# Altium schematic symbol library STM32.SchLib: 16 symbols
Pins are listed as number, name and electrical type; pins without a type are passive.

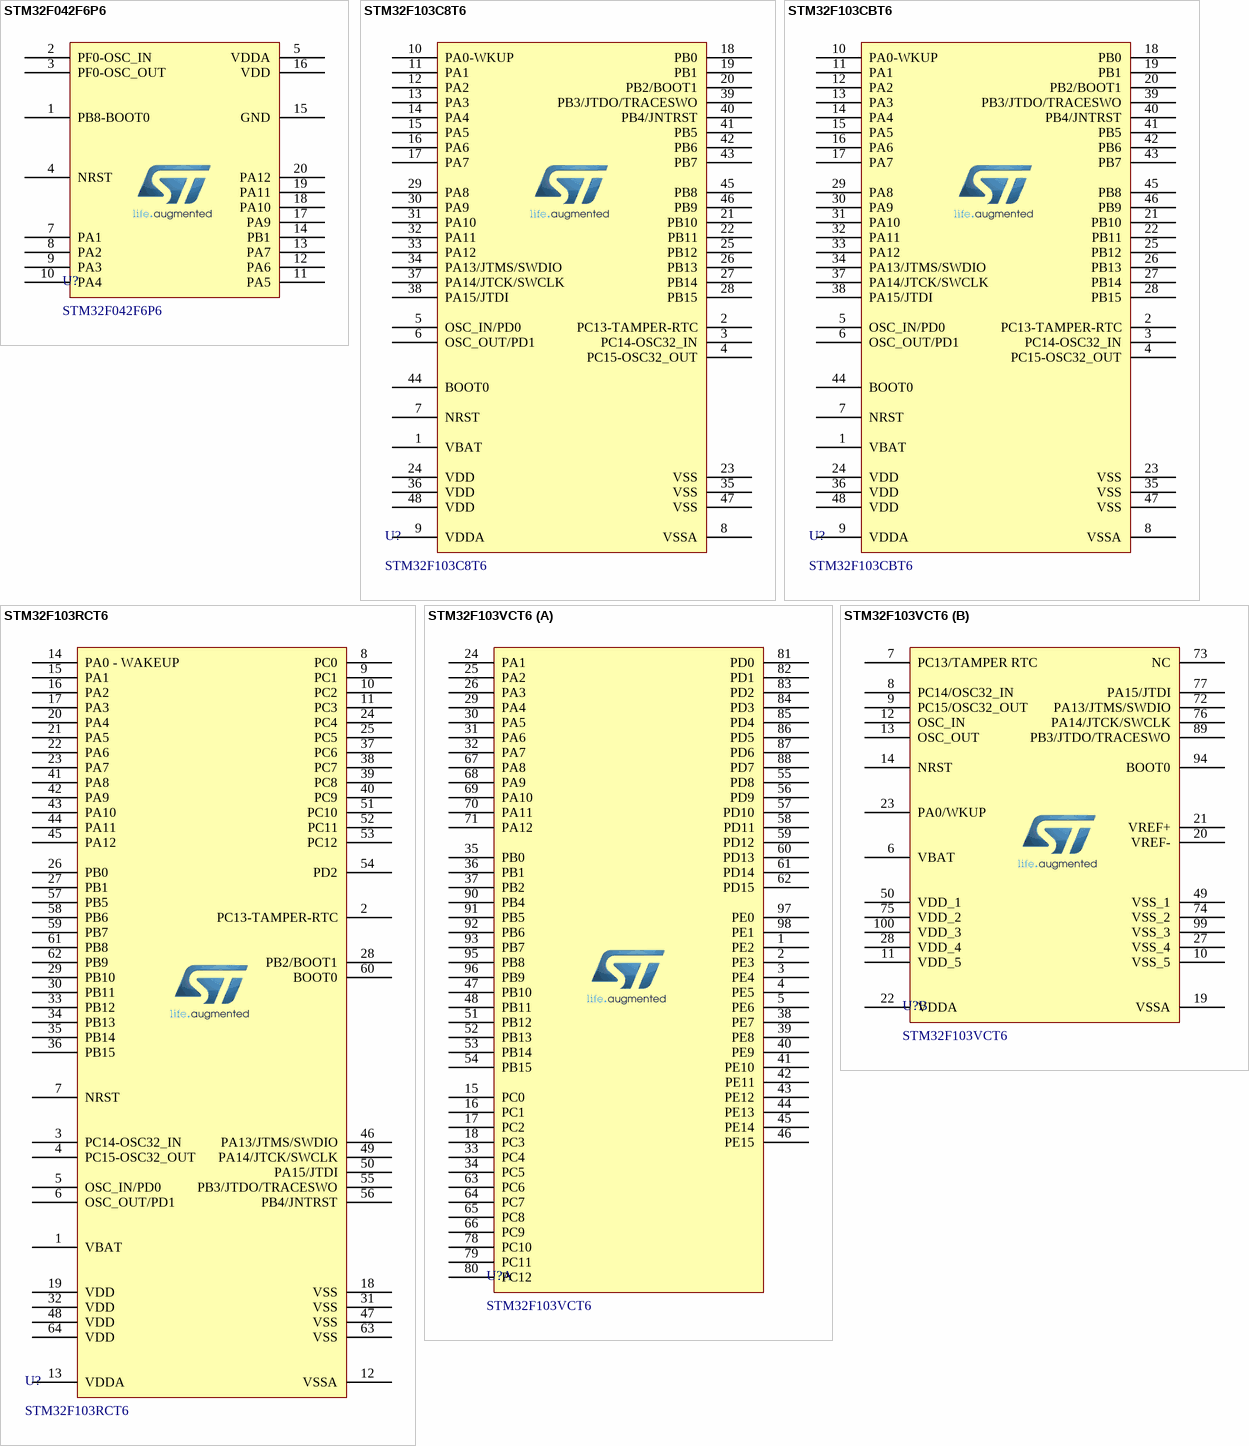
[diagram p0: symbols STM32F042F6P6 to STM32F103VCT6]

## STM32F042F6P6
designator U?
ARM Microcontrollers - MCU Mainstream Arm Cortex-M0 USB line MCU 32 Kbytes of Flash 48 MHz CPU, USB, CAN; Manufacturer: STMicroelectronics; Manufacturer Part Number: STM32F042F6P6TR; Pad count: 20; Supply Voltage - Max: 3.6 V; Supply Voltage - Min: 2 V; Part Number: STM32F042F6P6; Value: STM32F042F6P6; Supplier 1 URL: https://www.mouser.com/ProductDetail/STMicroelectronics/STM32F042F6P6?qs=4b8myOmUP%252BsTtpJfUMo83g%3D%3D; Supplier 2 URL: https://www.digikey.com/en/products/detail/stmicroelectronics/stm32f042f6p6tr/7313042; Supplier 3 URL: https://www.thegioiic.com/stm32f042f6p6-32-bit-arm-cortex-m0-microcontroller-48mhz-32kb-flash-20-tssop; Packaging: Tape and Reel; Supplier 1: Mouser; Supplier 1 Part Number: 511-STM32F042F6P6; Supplier 2: Digi-Key; Supplier 2 Part Number: 497-19656-2-ND; Supplier 3: thegioiic; Supplier 3 Part Number: STM32F042F6P6; Mount: SMD/SMT; Operating Temperature Max: + 85 C; Operating Temperature Min: - 40 C; Package / Case: TSSOP20; ComponentLink1Description: Datasheet; ComponentLink1URL: https://www.mouser.com/datasheet/2/389/stm32f042c4-1851049.pdf; LCSC Part #: N/A
footprint STM32F042F6P6 (TSOP, 20-Leads, Body 6.50x4.40mm, Pitch 0.65mm, IPC Medium Density)
pins: 1 PB8-BOOT0, 2 PF0-OSC_IN, 3 PF0-OSC_OUT, 4 NRST, 5 VDDA, 7 PA1, 8 PA2, 9 PA3, 10 PA4, 11 PA5, 12 PA6, 13 PA7, 14 PB1, 15 GND, 16 VDD, 17 PA9, 18 PA10, 19 PA11, 20 PA12

## STM32F103C8T6
designator U?
ARM Microcontrollers - MCU 32BIT Cortex M3 64KB 20KB RAM 2X12 ADC; Manufacturer: STMicroelectronics; Manufacturer Part Number: STM32F103C8T6TR; Pad count: 48; Supply Voltage - Max: 3.6 V; Supply Voltage - Min: 2 V; Part Number: STM32F103C8T6; Value: STM32F103C8T6; Supplier 1 URL: https://www.mouser.com/ProductDetail/STMicroelectronics/STM32F103C8T6?qs=bhCVus9SdFtq6kqxsU5%2FDA%3D%3D; Supplier 2 URL: https://www.digikey.com/en/products/detail/stmicroelectronics/stm32f103c8t6tr/2122442; Supplier 3 URL: https://www.thegioiic.com/stm32f103c8t6-32-bit-arm-cortex-m3-microcontroller-72mhz-64kb-flash-48-lqfp; Packaging: Tape and Reel; Supplier 1: Mouser; Supplier 1 Part Number: 511-STM32F103C8T6; Supplier 2: Digi-Key; Supplier 2 Part Number: 497-17666-2-ND; Supplier 3: thegioiic; Supplier 3 Part Number: STM32F103C8T6; Mount: SMD/SMT; Operating Temperature Max: + 85 C; Operating Temperature Min: - 40 C; Package / Case: LQFP48; ComponentLink1Description: Datasheet; ComponentLink1URL: https://www.mouser.com/datasheet/2/389/stm32f103c8-1851025.pdf; LCSC Part #: C8734; Flash Size: 64 KB; Ram Size: 20 KB
footprint STM32F103C8T6 (TSQFP, 48-Leads, Body 7.00x7.00mm, Pitch 0.50mm, IPC Medium Density)
pins: 1 VBAT, 2 PC13-TAMPER-RTC, 3 PC14-OSC32_IN, 4 PC15-OSC32_OUT, 5 OSC_IN/PD0, 6 OSC_OUT/PD1, 7 NRST, 8 VSSA, 9 VDDA, 10 PA0-WKUP, 11 PA1, 12 PA2, 13 PA3, 14 PA4, 15 PA5, 16 PA6, 17 PA7, 18 PB0, 19 PB1, 20 PB2/BOOT1, 21 PB10, 22 PB11, 23 VSS, 24 VDD, 25 PB12, 26 PB13, 27 PB14, 28 PB15, 29 PA8, 30 PA9, 31 PA10, 32 PA11, 33 PA12, 34 PA13/JTMS/SWDIO, 35 VSS, 36 VDD, 37 PA14/JTCK/SWCLK, 38 PA15/JTDI, 39 PB3/JTDO/TRACESWO, 40 PB4/JNTRST, 41 PB5, 42 PB6, 43 PB7, 44 BOOT0, 45 PB8, 46 PB9, 47 VSS, 48 VDD

## STM32F103CBT6
designator U?
Medium-density performance line ARM-based 32-bit MCU with 128 KB Flash, USB, CAN, 7 timers, 2 ADCs, 9 com. interfaces; Manufacturer: STMicroelectronics; Pad count: 48; Supply Voltage - Max: 3.6 V; Supply Voltage - Min: 2 V; Flash Size: 128 KB; Ram Size: 20 KB; Part Number: STM32F103CBT6; Value: STM32F103CBT6; Supplier 1 URL: https://www.mouser.vn/ProductDetail/STMicroelectronics/STM32F103CBT6?qs=WxFF5lh7QM3goh6GV5Ogig%3D%3D; Supplier 2 URL: https://www.digikey.com/en/products/detail/stmicroelectronics/stm32f103cbt6/1754420; Supplier 3 URL: N/A; Manufacturer Part Number: STM32F103CBT6; Packaging: Tape and Reel; Supplier 1: Mouser; Supplier 1 Part Number: 511-STM32F103CBT6; Supplier 2: Digi-Key; Supplier 2 Part Number: 497-6288-ND; Supplier 3: thegioiic; Supplier 3 Part Number: N/A; Mount: SMD/SMT; Operating Temperature Max: + 85 C; Operating Temperature Min: - 40 C; Package / Case: LQFP48; ComponentLink1Description: Datasheet; ComponentLink1URL: https://www.mouser.com/datasheet/2/389/stm32f103c8-1851025.pdf; LCSC Part #: C8304
footprint STM32F103C8T6 (TSQFP, 48-Leads, Body 7.00x7.00mm, Pitch 0.50mm, IPC Medium Density)
pins: 1 VBAT, 2 PC13-TAMPER-RTC, 3 PC14-OSC32_IN, 4 PC15-OSC32_OUT, 5 OSC_IN/PD0, 6 OSC_OUT/PD1, 7 NRST, 8 VSSA, 9 VDDA, 10 PA0-WKUP, 11 PA1, 12 PA2, 13 PA3, 14 PA4, 15 PA5, 16 PA6, 17 PA7, 18 PB0, 19 PB1, 20 PB2/BOOT1, 21 PB10, 22 PB11, 23 VSS, 24 VDD, 25 PB12, 26 PB13, 27 PB14, 28 PB15, 29 PA8, 30 PA9, 31 PA10, 32 PA11, 33 PA12, 34 PA13/JTMS/SWDIO, 35 VSS, 36 VDD, 37 PA14/JTCK/SWCLK, 38 PA15/JTDI, 39 PB3/JTDO/TRACESWO, 40 PB4/JNTRST, 41 PB5, 42 PB6, 43 PB7, 44 BOOT0, 45 PB8, 46 PB9, 47 VSS, 48 VDD

## STM32F103RCT6
designator U?
ARM Microcontrollers - MCU 32BIT Cortex M3 H/D 256 to 512 USB/CAN; Manufacturer: STMicroelectronics; Pad count: 64; Supply Voltage - Max: 3.6 V; Supply Voltage - Min: 2 V; Flash Size: 256 kB; Ram Size: 48 kB; Part Number: STM32F103RCT6; Value: STM32F103RCT6; Supplier 1 URL: https://www.mouser.vn/ProductDetail/STMicroelectronics/STM32F103RCT6?qs=%252BB84zevwoRA6TYzZIgOIoA%3D%3D; Supplier 2 URL: https://www.digikey.com/en/products/detail/stmicroelectronics/STM32F103RCT6/2035353; Supplier 3 URL: https://www.thegioiic.com/stm32f103rct6-64-lqfp-32-bit-arm-cortex-m3-microcontroller-72mhz-256kb-flash; Manufacturer Part Number: STM32F103RCT6; Packaging: Tape and Reel; Supplier 1: Mouser; Supplier 1 Part Number: 511-STM32F103RCT6; Supplier 2: Digi-Key; Supplier 2 Part Number: 497-9033-ND; Supplier 3: thegioiic; Supplier 3 Part Number: STM32F103RCT6; Mount: SMD/SMT; Operating Temperature Max: + 85 C; Operating Temperature Min: - 40 C; Package / Case: LQFP-64; ComponentLink1Description: Datasheet; ComponentLink1URL: https://www.mouser.vn/datasheet/2/389/stm32f103rc-1851170.pdf; LCSC Part #: C8323
footprint STM32F103RCT6 (TSQFP, 64-Leads, Body 10.00x10.00mm, Pitch 0.50mm, IPC Medium Density)
pins: 1 VBAT, 2 PC13-TAMPER-RTC, 3 PC14-OSC32_IN, 4 PC15-OSC32_OUT, 5 OSC_IN/PD0, 6 OSC_OUT/PD1, 7 NRST, 8 PC0, 9 PC1, 10 PC2, 11 PC3, 12 VSSA, 13 VDDA, 14 PA0 - WAKEUP, 15 PA1, 16 PA2, 17 PA3, 18 VSS, 19 VDD, 20 PA4, 21 PA5, 22 PA6, 23 PA7, 24 PC4, 25 PC5, 26 PB0, 27 PB1, 28 PB2/BOOT1, 29 PB10, 30 PB11, 31 VSS, 32 VDD, 33 PB12, 34 PB13, 35 PB14, 36 PB15, 37 PC6, 38 PC7, 39 PC8, 40 PC9, 41 PA8, 42 PA9, 43 PA10, 44 PA11, 45 PA12, 46 PA13/JTMS/SWDIO, 47 VSS, 48 VDD, 49 PA14/JTCK/SWCLK, 50 PA15/JTDI, 51 PC10, 52 PC11, 53 PC12, 54 PD2, 55 PB3/JTDO/TRACESWO, 56 PB4/JNTRST, 57 PB5, 58 PB6, 59 PB7, 60 BOOT0, 61 PB8, 62 PB9, 63 VSS, 64 VDD

## STM32F103VCT6
designator U?
ARM Microcontrollers - MCU 32BIT Cortex M3 256kB Flash 100pin; Manufacturer: STMicroelectronics; Pad count: 100; Supply Voltage - Max: 3.6 V; Supply Voltage - Min: 2 V; Ram Size: 48 kB; Part Number: STM32F103VCT6; Value: STM32F103VCT6; Supplier 1 URL: https://www.mouser.com/ProductDetail/STMicroelectronics/STM32F103VCT6?qs=%252BB84zevwoRDW1rpMEiZMCg%3D%3D; Supplier 2 URL: https://www.digikey.com/en/products/detail/stmicroelectronics/stm32f103vct6/2035333; Supplier 3 URL: https://www.thegioiic.com/stm32f103vct6-32-bit-arm-cortex-m3-microcontroller-72mhz-256kb-flash-100-lqfp; Manufacturer Part Number: STM32F103VCT6; Packaging: Tape and Reel; Supplier 1: Mouser; Supplier 1 Part Number: 511-STM32F103VCT6; Supplier 2: Digi-Key; Supplier 2 Part Number: 497-9034-ND; Supplier 3: thegioiic; Supplier 3 Part Number: STM32F103VCT6; Mount: SMD/SMT; Operating Temperature Max: + 85 C; Operating Temperature Min: - 40 C; Package / Case: LQFP-100; ComponentLink1Description: Datasheet; ComponentLink1URL: https://www.mouser.vn/datasheet/2/389/stm32f103rc-1851170.pdf; LCSC Part #: C8313; Flash Size: 256 kB
footprint STM32F103VCT6
part A pins: 1 PE2, 2 PE3, 3 PE4, 4 PE5, 5 PE6, 15 PC0, 16 PC1, 17 PC2, 18 PC3, 24 PA1, 25 PA2, 26 PA3, 29 PA4, 30 PA5, 31 PA6, 32 PA7, 33 PC4, 34 PC5, 35 PB0, 36 PB1, 37 PB2, 38 PE7, 39 PE8, 40 PE9, 41 PE10, 42 PE11, 43 PE12, 44 PE13, 45 PE14, 46 PE15, 47 PB10, 48 PB11, 51 PB12, 52 PB13, 53 PB14, 54 PB15, 55 PD8, 56 PD9, 57 PD10, 58 PD11, 59 PD12, 60 PD13, 61 PD14, 62 PD15, 63 PC6, 64 PC7, 65 PC8, 66 PC9, 67 PA8, 68 PA9, 69 PA10, 70 PA11, 71 PA12, 78 PC10, 79 PC11, 80 PC12, 81 PD0, 82 PD1, 83 PD2, 84 PD3, 85 PD4, 86 PD5, 87 PD6, 88 PD7, 90 PB4, 91 PB5, 92 PB6, 93 PB7, 95 PB8, 96 PB9, 97 PE0, 98 PE1
part B pins: 6 VBAT, 7 PC13/TAMPER RTC, 8 PC14/OSC32_IN, 9 PC15/OSC32_OUT, 10 VSS_5, 11 VDD_5, 12 OSC_IN, 13 OSC_OUT, 14 NRST, 19 VSSA, 20 VREF-, 21 VREF+, 22 VDDA, 23 PA0/WKUP, 27 VSS_4, 28 VDD_4, 49 VSS_1, 50 VDD_1, 72 PA13/JTMS/SWDIO, 73 NC, 74 VSS_2, 75 VDD_2, 76 PA14/JTCK/SWCLK, 77 PA15/JTDI, 89 PB3/JTDO/TRACESWO, 94 BOOT0, 99 VSS_3, 100 VDD_3

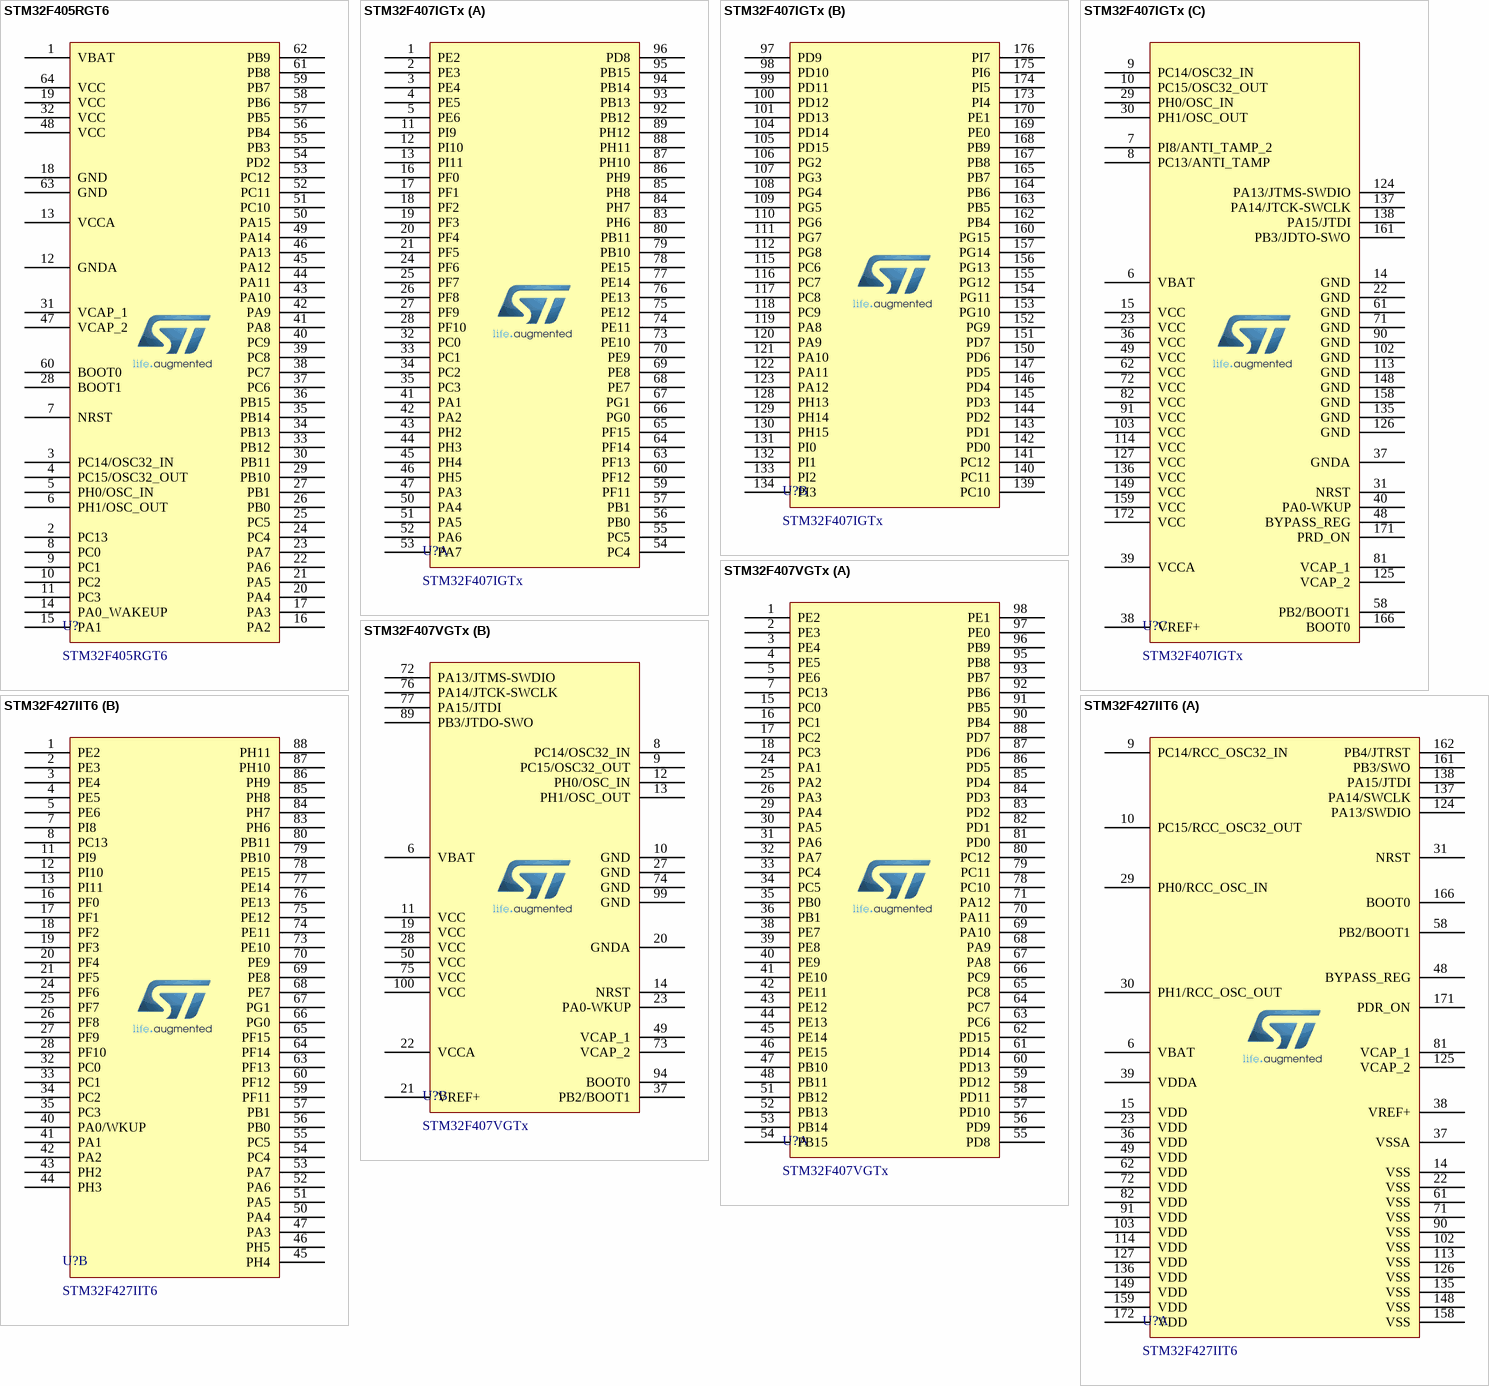
[diagram p1: symbols STM32F405RGT6 to STM32F427IIT6]

## STM32F405RGT6
designator U?
ARM Microcontrollers - MCU ARM M4 1024 FLASH 168 Mhz 192kB SRAM; Manufacturer: STMicroelectronics; Pad count: 64; Supply Voltage - Max: 3.6 V; Supply Voltage - Min: 2 V; Flash Size: 1 MB; Part Number: STM32F405RGT6; Value: STM32F405RGT6; Supplier 1 URL: https://www.mouser.com/ProductDetail/STMicroelectronics/STM32F405RGT6?qs=Z8%252BeY1k3TIKgj7QWsYGpQw%3D%3D; Supplier 2 URL: https://www.digikey.com/en/products/detail/stmicroelectronics/stm32f405rgt6/2754208; Supplier 3 URL: https://www.thegioiic.com/stm32f405rgt6; Manufacturer Part Number: STM32F405RGT6; Packaging: Tape and Reel; Supplier 1: Mouser; Supplier 1 Part Number: 511-STM32F405RGT6; Supplier 2: Digi-Key; Supplier 2 Part Number: 497-11767-ND; Supplier 3: thegioiic; Supplier 3 Part Number: STM32F405RGT6; Mount: SMD/SMT; Operating Temperature Max: + 85 C; Operating Temperature Min: - 40 C; Package / Case: LQFP64; ComponentLink1Description: Datasheet; ComponentLink1URL: https://www.mouser.com/datasheet/2/389/stm32f405rg-1851084.pdf; LCSC Part #: C15742; Ram Size: 192 kB
footprint STM32F405RGT6 (CQFP, 80-Leads, Body 12.00x12.00mm, Pitch 0.40mm, IPC Medium Density)
pins: 1 VBAT, 2 PC13, 3 PC14/OSC32_IN, 4 PC15/OSC32_OUT, 5 PH0/OSC_IN, 6 PH1/OSC_OUT, 7 NRST, 8 PC0, 9 PC1, 10 PC2, 11 PC3, 12 GNDA, 13 VCCA, 14 PA0_WAKEUP, 15 PA1, 16 PA2, 17 PA3, 18 GND, 19 VCC, 20 PA4, 21 PA5, 22 PA6, 23 PA7, 24 PC4, 25 PC5, 26 PB0, 27 PB1, 28 BOOT1, 29 PB10, 30 PB11, 31 VCAP_1, 32 VCC, 33 PB12, 34 PB13, 35 PB14, 36 PB15, 37 PC6, 38 PC7, 39 PC8, 40 PC9, 41 PA8, 42 PA9, 43 PA10, 44 PA11, 45 PA12, 46 PA13, 47 VCAP_2, 48 VCC, 49 PA14, 50 PA15, 51 PC10, 52 PC11, 53 PC12, 54 PD2, 55 PB3, 56 PB4, 57 PB5, 58 PB6, 59 PB7, 60 BOOT0, 61 PB8, 62 PB9, 63 GND, 64 VCC

## STM32F407IGTx
designator U?
ARM Microcontrollers - MCU ARM M4 1024 FLASH 168 Mhz 192kB SRAM; Manufacturer: STMicroelectronics; Pad count: 176; Supply Voltage - Max: 3.6 V; Supply Voltage - Min: 2 V; Part Number: STM32F407IGTx; Value: STM32F407IGTx; Supplier 1 URL: https://www.mouser.com/ProductDetail/STMicroelectronics/STM32F407IGT6?qs=Z8%252BeY1k3TIKtCI1VFSVLrA%3D%3D; Supplier 2 URL: https://www.digikey.com/en/products/detail/stmicroelectronics/stm32f407igt6/2747118; Supplier 3 URL: N/A; Manufacturer Part Number: STM32F407IGTx; Packaging: Tape and Reel; Supplier 1: Mouser; Supplier 1 Part Number: 511-STM32F407IGT6; Supplier 2: Digi-Key; Supplier 2 Part Number: 497-11604-ND; Supplier 3: thegioiic; Supplier 3 Part Number: N/A; Mount: SMD/SMT; Operating Temperature Max: + 85 C; Operating Temperature Min: - 40 C; Package / Case: LQFP176; ComponentLink1Description: Datasheet; ComponentLink1URL: https://www.mouser.com/datasheet/2/389/stm32f405rg-1851084.pdf; LCSC Part #: N/A
footprint STM32F407IGTx (TSQFP, 176-Leads, Body 24.00x24.00mm, Pitch 0.50mm, IPC Medium Density)
part A pins: 1 PE2, 2 PE3, 3 PE4, 4 PE5, 5 PE6, 11 PI9, 12 PI10, 13 PI11, 16 PF0, 17 PF1, 18 PF2, 19 PF3, 20 PF4, 21 PF5, 24 PF6, 25 PF7, 26 PF8, 27 PF9, 28 PF10, 32 PC0, 33 PC1, 34 PC2, 35 PC3, 41 PA1, 42 PA2, 43 PH2, 44 PH3, 45 PH4, 46 PH5, 47 PA3, 50 PA4, 51 PA5, 52 PA6, 53 PA7, 54 PC4, 55 PC5, 56 PB0, 57 PB1, 59 PF11, 60 PF12, 63 PF13, 64 PF14, 65 PF15, 66 PG0, 67 PG1, 68 PE7, 69 PE8, 70 PE9, 73 PE10, 74 PE11, 75 PE12, 76 PE13, 77 PE14, 78 PE15, 79 PB10, 80 PB11, 83 PH6, 84 PH7, 85 PH8, 86 PH9, 87 PH10, 88 PH11, 89 PH12, 92 PB12, 93 PB13, 94 PB14, 95 PB15, 96 PD8
part B pins: 97 PD9, 98 PD10, 99 PD11, 100 PD12, 101 PD13, 104 PD14, 105 PD15, 106 PG2, 107 PG3, 108 PG4, 109 PG5, 110 PG6, 111 PG7, 112 PG8, 115 PC6, 116 PC7, 117 PC8, 118 PC9, 119 PA8, 120 PA9, 121 PA10, 122 PA11, 123 PA12, 128 PH13, 129 PH14, 130 PH15, 131 PI0, 132 PI1, 133 PI2, 134 PI3, 139 PC10, 140 PC11, 141 PC12, 142 PD0, 143 PD1, 144 PD2, 145 PD3, 146 PD4, 147 PD5, 150 PD6, 151 PD7, 152 PG9, 153 PG10, 154 PG11, 155 PG12, 156 PG13, 157 PG14, 160 PG15, 162 PB4, 163 PB5, 164 PB6, 165 PB7, 167 PB8, 168 PB9, 169 PE0, 170 PE1, 173 PI4, 174 PI5, 175 PI6, 176 PI7
part C pins: 6 VBAT, 7 PI8/ANTI_TAMP_2, 8 PC13/ANTI_TAMP, 9 PC14/OSC32_IN, 10 PC15/OSC32_OUT, 14 GND, 15 VCC, 22 GND, 23 VCC, 29 PH0/OSC_IN, 30 PH1/OSC_OUT, 31 NRST, 36 VCC, 37 GNDA, 38 VREF+, 39 VCCA, 40 PA0-WKUP, 48 BYPASS_REG, 49 VCC, 58 PB2/BOOT1, 61 GND, 62 VCC, 71 GND, 72 VCC, 81 VCAP_1, 82 VCC, 90 GND, 91 VCC, 102 GND, 103 VCC, 113 GND, 114 VCC, 124 PA13/JTMS-SWDIO, 125 VCAP_2, 126 GND, 127 VCC, 135 GND, 136 VCC, 137 PA14/JTCK-SWCLK, 138 PA15/JTDI, 148 GND, 149 VCC, 158 GND, 159 VCC, 161 PB3/JDTO-SWO, 166 BOOT0, 171 PRD_ON, 172 VCC

## STM32F407VGTx
designator U?
ARM Microcontrollers - MCU ARM M4 1024 FLASH 168 Mhz 192kB SRAM; Manufacturer: STMicroelectronics; Part Number: STM32F407IGTx; Pad count: 100; Supply Voltage - Max: 3.6 V; Supply Voltage - Min: 2 V; Value: STM32F407VGTx; Supplier 1 URL: https://www.mouser.com/ProductDetail/STMicroelectronics/STM32F407VGT6?qs=Z8%252BeY1k3TIKAEQqwbO%2FOzA%3D%3D; Supplier 2 URL: https://www.digikey.com/en/products/detail/stmicroelectronics/stm32f407vgt6/2747117; Supplier 3 URL: N/A; Manufacturer Part Number: STM32F407VGTx; Packaging: Tape and Reel; Supplier 1: Mouser; Supplier 1 Part Number: 511-STM32F407VGT6; Supplier 2: Digi-Key; Supplier 2 Part Number: 497-11605-ND; Supplier 3: thegioiic; Supplier 3 Part Number: N/A; Mount: SMD/SMT; Operating Temperature Max: + 85 C; Operating Temperature Min: - 40 C; Package / Case: LQFP100; ComponentLink1Description: Datasheet; ComponentLink1URL: https://www.mouser.com/datasheet/2/389/stm32f745ie-1851206.pdf; LCSC Part #: N/A
footprint STM32F407VGTx (TSQFP, 100-Leads, Body 14.00x14.00mm, Pitch 0.50mm, IPC Medium Density)
part A pins: 1 PE2, 2 PE3, 3 PE4, 4 PE5, 5 PE6, 7 PC13, 15 PC0, 16 PC1, 17 PC2, 18 PC3, 24 PA1, 25 PA2, 26 PA3, 29 PA4, 30 PA5, 31 PA6, 32 PA7, 33 PC4, 34 PC5, 35 PB0, 36 PB1, 38 PE7, 39 PE8, 40 PE9, 41 PE10, 42 PE11, 43 PE12, 44 PE13, 45 PE14, 46 PE15, 47 PB10, 48 PB11, 51 PB12, 52 PB13, 53 PB14, 54 PB15, 55 PD8, 56 PD9, 57 PD10, 58 PD11, 59 PD12, 60 PD13, 61 PD14, 62 PD15, 63 PC6, 64 PC7, 65 PC8, 66 PC9, 67 PA8, 68 PA9, 69 PA10, 70 PA11, 71 PA12, 78 PC10, 79 PC11, 80 PC12, 81 PD0, 82 PD1, 83 PD2, 84 PD3, 85 PD4, 86 PD5, 87 PD6, 88 PD7, 90 PB4, 91 PB5, 92 PB6, 93 PB7, 95 PB8, 96 PB9, 97 PE0, 98 PE1
part B pins: 6 VBAT, 8 PC14/OSC32_IN, 9 PC15/OSC32_OUT, 10 GND, 11 VCC, 12 PH0/OSC_IN, 13 PH1/OSC_OUT, 14 NRST, 19 VCC, 20 GNDA, 21 VREF+, 22 VCCA, 23 PA0-WKUP, 27 GND, 28 VCC, 37 PB2/BOOT1, 49 VCAP_1, 50 VCC, 72 PA13/JTMS-SWDIO, 73 VCAP_2, 74 GND, 75 VCC, 76 PA14/JTCK-SWCLK, 77 PA15/JTDI, 89 PB3/JTDO-SWO, 94 BOOT0, 99 GND, 100 VCC

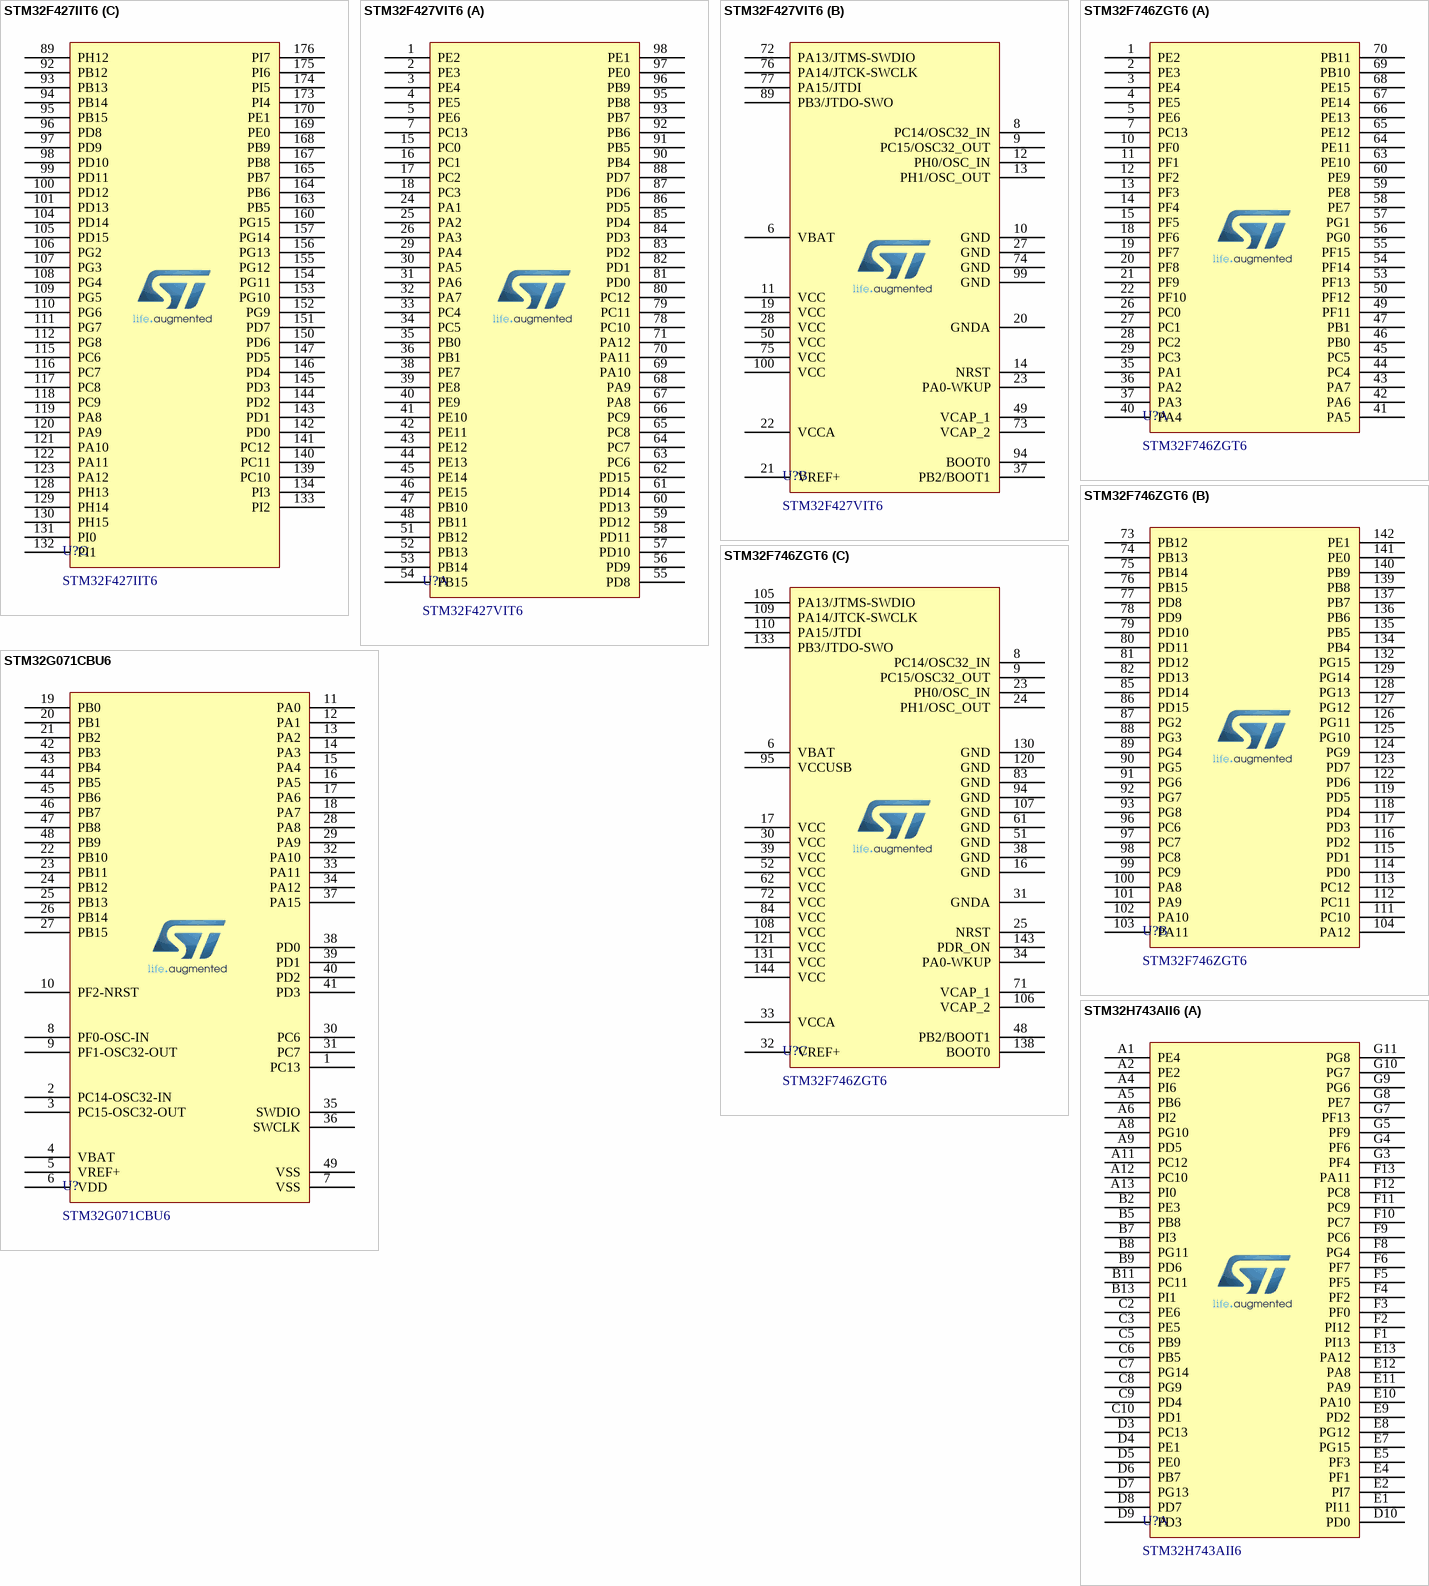
[diagram p2: symbols STM32F427IIT6 to STM32H743AII6]

## STM32F427IIT6
designator U?
ARM Microcontrollers - MCU 32B ARM Cortex-M4 2Mb Flash 168MHz CPU; Manufacturer: STMicroelectronics; Pad count: 176; Supply Voltage - Max: 3.6 V; Supply Voltage - Min: 1.7 V; Ram Size: 260 kB; Part Number: STM32F427IIT6; Value: STM32F427IIT6; Supplier 1 URL: https://www.mouser.com/ProductDetail/STMicroelectronics/STM32F427VIT6?qs=GlLcxsc1hfFxlQzXIfPRUw%3D%3D; Supplier 2 URL: https://www.digikey.com/en/products/detail/stmicroelectronics/stm32f427iit6/4357417; Supplier 3 URL: N/A; Manufacturer Part Number: STM32F427IIT6; Packaging: Tape and Reel; Supplier 1: Mouser; Supplier 1 Part Number: 511-STM32F427IIT6; Supplier 2: Digi-Key; Supplier 2 Part Number: 497-14051-ND; Supplier 3: thegioiic; Supplier 3 Part Number: N/A; Mount: SMD/SMT; Operating Temperature Max: + 85 C; Operating Temperature Min: - 40 C; Package / Case: LQFP-176; ComponentLink1Description: Datasheet; ComponentLink1URL: https://www.st.com/resource/en/datasheet/stm32f427ag.pdf; LCSC Part #: C2969761; Flash Size: 2 MB
footprint STM32F427IIT6 (TSQFP, 176-Leads, Body 24.00x24.00mm, Pitch 0.50mm, IPC Medium Density)
part A pins: 6 VBAT, 9 PC14/RCC_OSC32_IN, 10 PC15/RCC_OSC32_OUT, 14 VSS, 15 VDD, 22 VSS, 23 VDD, 29 PH0/RCC_OSC_IN, 30 PH1/RCC_OSC_OUT, 31 NRST, 36 VDD, 37 VSSA, 38 VREF+, 39 VDDA, 48 BYPASS_REG, 49 VDD, 58 PB2/BOOT1, 61 VSS, 62 VDD, 71 VSS, 72 VDD, 81 VCAP_1, 82 VDD, 90 VSS, 91 VDD, 102 VSS, 103 VDD, 113 VSS, 114 VDD, 124 PA13/SWDIO, 125 VCAP_2, 126 VSS, 127 VDD, 135 VSS, 136 VDD, 137 PA14/SWCLK, 138 PA15/JTDI, 148 VSS, 149 VDD, 158 VSS, 159 VDD, 161 PB3/SWO, 162 PB4/JTRST, 166 BOOT0, 171 PDR_ON, 172 VDD
part B pins: 1 PE2, 2 PE3, 3 PE4, 4 PE5, 5 PE6, 7 PI8, 8 PC13, 11 PI9, 12 PI10, 13 PI11, 16 PF0, 17 PF1, 18 PF2, 19 PF3, 20 PF4, 21 PF5, 24 PF6, 25 PF7, 26 PF8, 27 PF9, 28 PF10, 32 PC0, 33 PC1, 34 PC2, 35 PC3, 40 PA0/WKUP, 41 PA1, 42 PA2, 43 PH2, 44 PH3, 45 PH4, 46 PH5, 47 PA3, 50 PA4, 51 PA5, 52 PA6, 53 PA7, 54 PC4, 55 PC5, 56 PB0, 57 PB1, 59 PF11, 60 PF12, 63 PF13, 64 PF14, 65 PF15, 66 PG0, 67 PG1, 68 PE7, 69 PE8, 70 PE9, 73 PE10, 74 PE11, 75 PE12, 76 PE13, 77 PE14, 78 PE15, 79 PB10, 80 PB11, 83 PH6, 84 PH7, 85 PH8, 86 PH9, 87 PH10, 88 PH11
part C pins: 89 PH12, 92 PB12, 93 PB13, 94 PB14, 95 PB15, 96 PD8, 97 PD9, 98 PD10, 99 PD11, 100 PD12, 101 PD13, 104 PD14, 105 PD15, 106 PG2, 107 PG3, 108 PG4, 109 PG5, 110 PG6, 111 PG7, 112 PG8, 115 PC6, 116 PC7, 117 PC8, 118 PC9, 119 PA8, 120 PA9, 121 PA10, 122 PA11, 123 PA12, 128 PH13, 129 PH14, 130 PH15, 131 PI0, 132 PI1, 133 PI2, 134 PI3, 139 PC10, 140 PC11, 141 PC12, 142 PD0, 143 PD1, 144 PD2, 145 PD3, 146 PD4, 147 PD5, 150 PD6, 151 PD7, 152 PG9, 153 PG10, 154 PG11, 155 PG12, 156 PG13, 157 PG14, 160 PG15, 163 PB5, 164 PB6, 165 PB7, 167 PB8, 168 PB9, 169 PE0, 170 PE1, 173 PI4, 174 PI5, 175 PI6, 176 PI7

## STM32F427VIT6
designator U?
ARM Microcontrollers - MCU 32B ARM Cortex-M4 2Mb Flash 168MHz CPU; Manufacturer: STMicroelectronics; Part Number: STM32F427VIT6A; Pad count: 100; Supply Voltage - Max: 3.6 V; Supply Voltage - Min: 2 V; Ram Size: 260 kB; Value: STM32F427VIT6; Supplier 1 URL: https://www.mouser.com/ProductDetail/STMicroelectronics/STM32F427VIT6?qs=GlLcxsc1hfFxlQzXIfPRUw%3D%3D; Supplier 2 URL: https://www.digikey.com/en/products/detail/stmicroelectronics/stm32f429vit6g/8257805; Supplier 3 URL: N/A; Manufacturer Part Number: STM32F427VIT6; Packaging: Tape and Reel; Supplier 1: Mouser; Supplier 1 Part Number: 511-STM32F427VIT6; Supplier 2: Digi-Key; Supplier 2 Part Number: STM32F429VIT6G-ND; Supplier 3: thegioiic; Supplier 3 Part Number: N/A; Mount: SMD/SMT; Operating Temperature Max: + 85 C; Operating Temperature Min: - 40 C; Package / Case: LQFP100; ComponentLink1Description: Datasheet; ComponentLink1URL: https://www.mouser.com/datasheet/2/389/stm32f427vg-1760963.pdf; LCSC Part #: C57097; Flash Size: 2 MB
footprint STM32F427VIT6 (TSQFP, 100-Leads, Body 14.00x14.00mm, Pitch 0.50mm, IPC Medium Density)
part A pins: 1 PE2, 2 PE3, 3 PE4, 4 PE5, 5 PE6, 7 PC13, 15 PC0, 16 PC1, 17 PC2, 18 PC3, 24 PA1, 25 PA2, 26 PA3, 29 PA4, 30 PA5, 31 PA6, 32 PA7, 33 PC4, 34 PC5, 35 PB0, 36 PB1, 38 PE7, 39 PE8, 40 PE9, 41 PE10, 42 PE11, 43 PE12, 44 PE13, 45 PE14, 46 PE15, 47 PB10, 48 PB11, 51 PB12, 52 PB13, 53 PB14, 54 PB15, 55 PD8, 56 PD9, 57 PD10, 58 PD11, 59 PD12, 60 PD13, 61 PD14, 62 PD15, 63 PC6, 64 PC7, 65 PC8, 66 PC9, 67 PA8, 68 PA9, 69 PA10, 70 PA11, 71 PA12, 78 PC10, 79 PC11, 80 PC12, 81 PD0, 82 PD1, 83 PD2, 84 PD3, 85 PD4, 86 PD5, 87 PD6, 88 PD7, 90 PB4, 91 PB5, 92 PB6, 93 PB7, 95 PB8, 96 PB9, 97 PE0, 98 PE1
part B pins: 6 VBAT, 8 PC14/OSC32_IN, 9 PC15/OSC32_OUT, 10 GND, 11 VCC, 12 PH0/OSC_IN, 13 PH1/OSC_OUT, 14 NRST, 19 VCC, 20 GNDA, 21 VREF+, 22 VCCA, 23 PA0-WKUP, 27 GND, 28 VCC, 37 PB2/BOOT1, 49 VCAP_1, 50 VCC, 72 PA13/JTMS-SWDIO, 73 VCAP_2, 74 GND, 75 VCC, 76 PA14/JTCK-SWCLK, 77 PA15/JTDI, 89 PB3/JTDO-SWO, 94 BOOT0, 99 GND, 100 VCC

## STM32F746ZGT6
designator U?
ARM Microcontrollers - MCU High-performance & DSP FPU Arm Cortex-M7 MCU 1 Mbyte of Flash 216 MHz CPU, Art A; Manufacturer: STMicroelectronics; Part Number: STM32F746ZGT6A; Pad count: 144; Supply Voltage - Max: 3.6 V; Supply Voltage - Min: 2 V; Value: STM32F746ZGT6; Supplier 1 URL: https://www.mouser.com/ProductDetail/STMicroelectronics/STM32F746ZGT6?qs=E2FFEhwHWtea9cFNtjZMIQ%3D%3D; Supplier 2 URL: https://www.digikey.com/en/products/detail/stmicroelectronics/stm32f746zgt6g/8257836; Supplier 3 URL: N/A; Manufacturer Part Number: STM32F746ZGT6A; Packaging: Tape and Reel; Supplier 1: Mouser; Supplier 1 Part Number: 511-STM32F746ZGT6; Supplier 2: Digi-Key; Supplier 2 Part Number: STM32F746ZGT6G-ND; Supplier 3: thegioiic; Supplier 3 Part Number: N/A; Mount: SMD/SMT; Operating Temperature Max: + 85 C; Operating Temperature Min: - 40 C; Package / Case: LQFP144; ComponentLink1Description: Datasheet; ComponentLink1URL: https://www.mouser.com/datasheet/2/389/stm32f745ie-1851206.pdf; LCSC Part #: N/A
footprint STM32F746ZGT6 (TSQFP, 144-Leads, Body 20.00x20.00mm, Pitch 0.50mm, IPC Medium Density)
part A pins: 1 PE2, 2 PE3, 3 PE4, 4 PE5, 5 PE6, 7 PC13, 10 PF0, 11 PF1, 12 PF2, 13 PF3, 14 PF4, 15 PF5, 18 PF6, 19 PF7, 20 PF8, 21 PF9, 22 PF10, 26 PC0, 27 PC1, 28 PC2, 29 PC3, 35 PA1, 36 PA2, 37 PA3, 40 PA4, 41 PA5, 42 PA6, 43 PA7, 44 PC4, 45 PC5, 46 PB0, 47 PB1, 49 PF11, 50 PF12, 53 PF13, 54 PF14, 55 PF15, 56 PG0, 57 PG1, 58 PE7, 59 PE8, 60 PE9, 63 PE10, 64 PE11, 65 PE12, 66 PE13, 67 PE14, 68 PE15, 69 PB10, 70 PB11
part B pins: 73 PB12, 74 PB13, 75 PB14, 76 PB15, 77 PD8, 78 PD9, 79 PD10, 80 PD11, 81 PD12, 82 PD13, 85 PD14, 86 PD15, 87 PG2, 88 PG3, 89 PG4, 90 PG5, 91 PG6, 92 PG7, 93 PG8, 96 PC6, 97 PC7, 98 PC8, 99 PC9, 100 PA8, 101 PA9, 102 PA10, 103 PA11, 104 PA12, 111 PC10, 112 PC11, 113 PC12, 114 PD0, 115 PD1, 116 PD2, 117 PD3, 118 PD4, 119 PD5, 122 PD6, 123 PD7, 124 PG9, 125 PG10, 126 PG11, 127 PG12, 128 PG13, 129 PG14, 132 PG15, 134 PB4, 135 PB5, 136 PB6, 137 PB7, 139 PB8, 140 PB9, 141 PE0, 142 PE1
part C pins: 6 VBAT, 8 PC14/OSC32_IN, 9 PC15/OSC32_OUT, 16 GND, 17 VCC, 23 PH0/OSC_IN, 24 PH1/OSC_OUT, 25 NRST, 30 VCC, 31 GNDA, 32 VREF+, 33 VCCA, 34 PA0-WKUP, 38 GND, 39 VCC, 48 PB2/BOOT1, 51 GND, 52 VCC, 61 GND, 62 VCC, 71 VCAP_1, 72 VCC, 83 GND, 84 VCC, 94 GND, 95 VCCUSB, 105 PA13/JTMS-SWDIO, 106 VCAP_2, 107 GND, 108 VCC, 109 PA14/JTCK-SWCLK, 110 PA15/JTDI, 120 GND, 121 VCC, 130 GND, 131 VCC, 133 PB3/JTDO-SWO, 138 BOOT0, 143 PDR_ON, 144 VCC

## STM32G071CBU6
designator U?
ARM Microcontrollers - MCU Mainstream Arm Cortex-M0 USB line MCU 32 Kbytes of Flash 48 MHz CPU, USB, CAN; Part Number: STM32F042F6P6; Manufacturer: STMicroelectronics; Pad count: 48; Supply Voltage - Max: 3.6 V; Supply Voltage - Min: 1.71V; Flash Size: 128KB; Ram Size: 36 kB; Value: STM32G071CBU6; Supplier 1 URL: https://www.mouser.com/ProductDetail/STMicroelectronics/STM32G071CBU6?qs=PqoDHHvF648BGloVMMKm2g%3D%3D; Supplier 2 URL: https://www.digikey.com/en/products/detail/stmicroelectronics/stm32g071cbu6/9817786; Supplier 3 URL: N/A; Manufacturer Part Number: STM32G071CBU6; Packaging: Tape and Reel; Supplier 1: Mouser; Supplier 1 Part Number: 511-STM32G071CBU6; Supplier 2: Digi-Key; Supplier 2 Part Number: 497-18353-ND; Supplier 3: thegioiic; Supplier 3 Part Number: N/A; Mount: SMD/SMT; Operating Temperature Max: + 85 C; Operating Temperature Min: - 40 C; Package / Case: UFQFPN-48; ComponentLink1Description: Datasheet; ComponentLink1URL: https://www.lcsc.com/datasheet/C529343.pdf; LCSC Part #: C529343
footprint STM32G071CBU6 (QFN, 48-Leads, Body 7.00x7.00mm, Pitch 0.50mm, Thermal Pad 5.60x5.60mm, IPC Medium Density)
pins: 1 PC13, 2 PC14-OSC32-IN, 3 PC15-OSC32-OUT, 4 VBAT, 5 VREF+, 6 VDD, 7 VSS, 8 PF0-OSC-IN, 9 PF1-OSC32-OUT, 10 PF2-NRST, 11 PA0, 12 PA1, 13 PA2, 14 PA3, 15 PA4, 16 PA5, 17 PA6, 18 PA7, 19 PB0, 20 PB1, 21 PB2, 22 PB10, 23 PB11, 24 PB12, 25 PB13, 26 PB14, 27 PB15, 28 PA8, 29 PA9, 30 PC6, 31 PC7, 32 PA10, 33 PA11, 34 PA12, 35 SWDIO, 36 SWCLK, 37 PA15, 38 PD0, 39 PD1, 40 PD2, 41 PD3, 42 PB3, 43 PB4, 44 PB5, 45 PB6, 46 PB7, 47 PB8, 48 PB9, 49 VSS

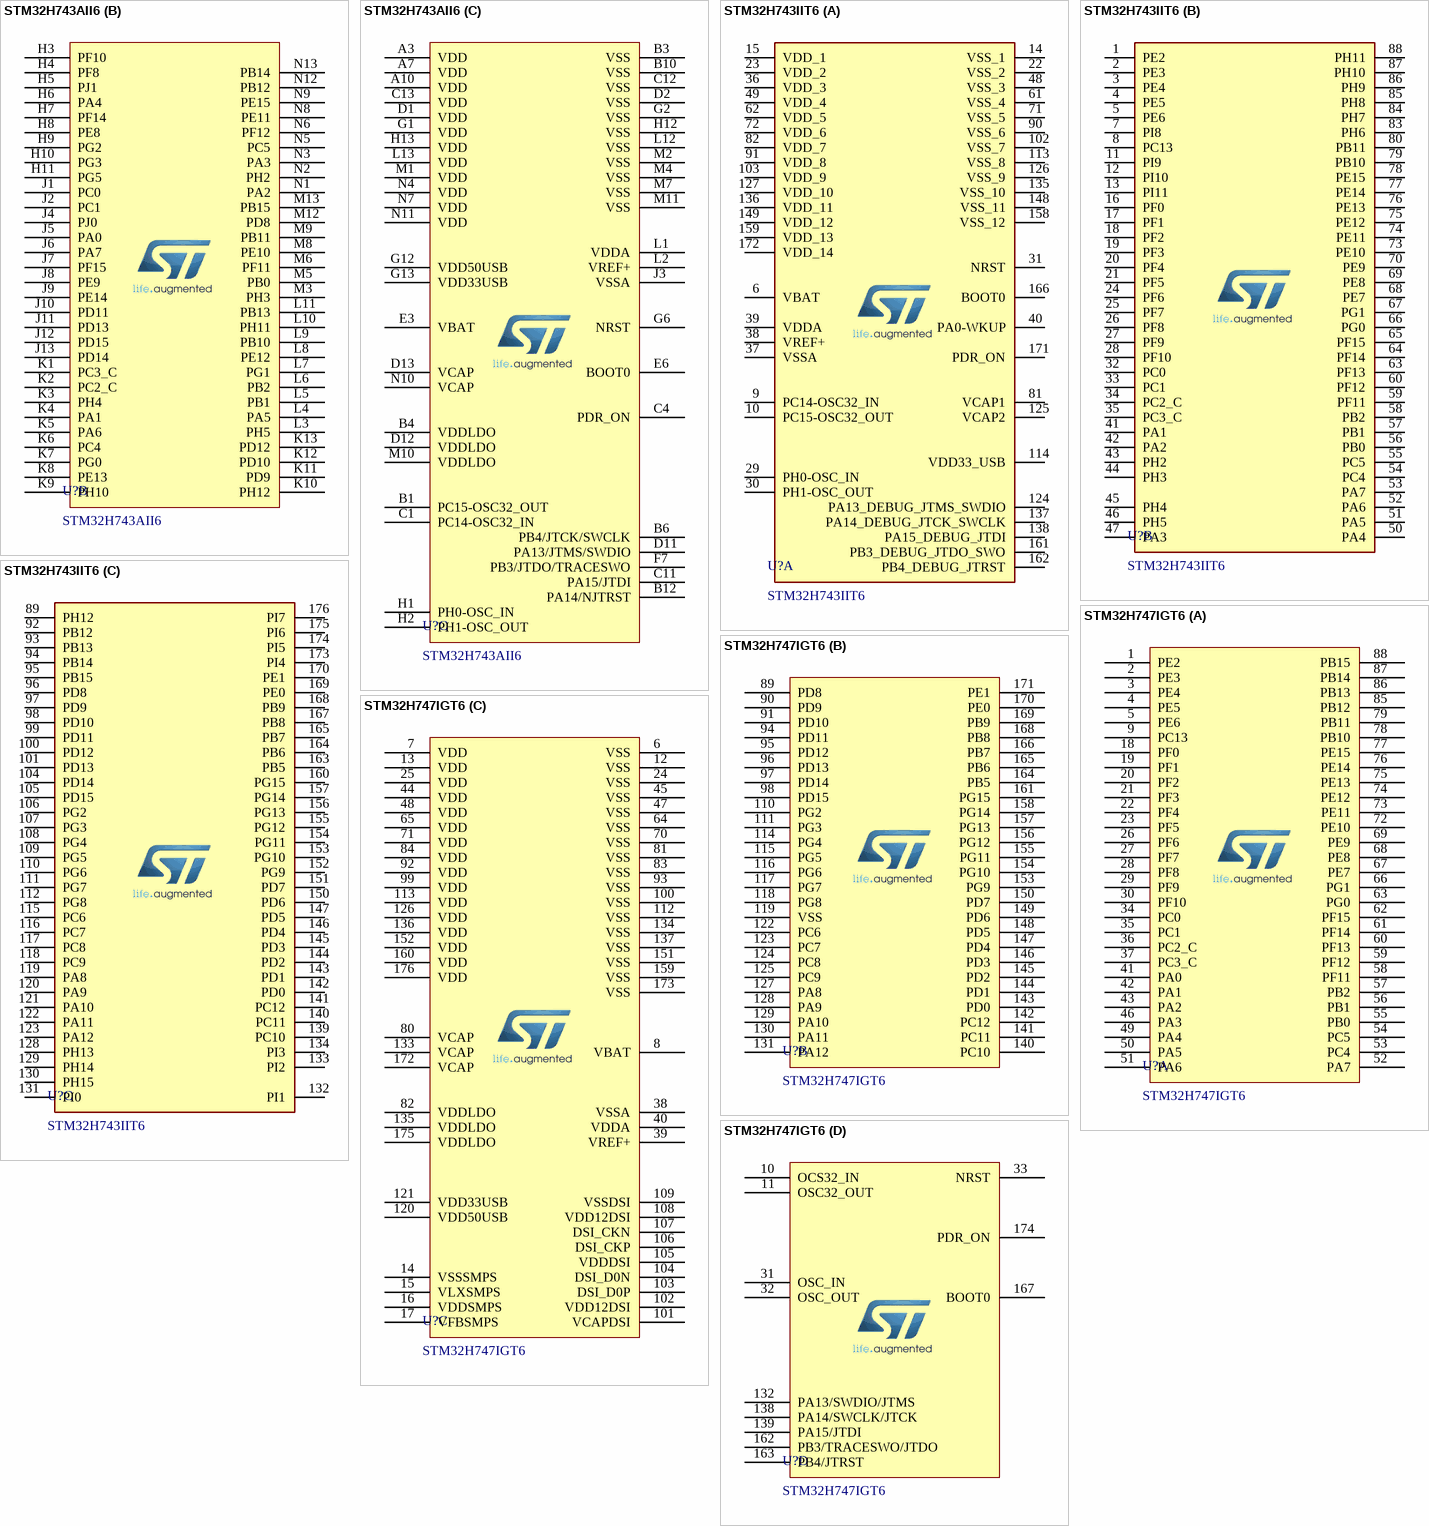
[diagram p3: symbols STM32H743AII6 to STM32H747IGT6]

## STM32H743AII6
designator U?
ARM Microcontrollers - MCU High-performance & DSP DP-FPU, Arm Cortex-M7 MCU 2MBytes of Flash 1MB RAM, 480 M; Manufacturer: STMicroelectronics; Pad count: 169; Supply Voltage - Max: 3.6 V; Supply Voltage - Min: 1.62 V; Part Number: STM32H743AII6; Value: STM32H743AII6; Supplier 1 URL: https://www.mouser.com/ProductDetail/STMicroelectronics/STM32H743AII6?qs=0lQeLiL1qybmjgWZpuJBFQ%3D%3D; Supplier 2 URL: https://www.digikey.com/en/products/detail/stmicroelectronics/stm32h743aii6/10326783; Supplier 3 URL: N/A; Manufacturer Part Number: STM32H743AII6; Packaging: Tape and Reel; Supplier 1: Mouser; Supplier 1 Part Number: 511-STM32H743AII6; Supplier 2: Digi-Key; Supplier 2 Part Number: 497-STM32H743AII6-ND; Supplier 3: thegioiic; Supplier 3 Part Number: N/A; Mount: SMD/SMT; Operating Temperature Max: + 85 C; Operating Temperature Min: - 40 C; Package / Case: UFBGA-169; ComponentLink1Description: Datasheet; ComponentLink1URL: https://www.lcsc.com/datasheet/C730180.pdf; LCSC Part #: C730180
footprint STM32H743AII6 (BGA, 169-Leads, Body 7.00x7.00mmx0.60mm, Pitch 0.50mm)
part A pins: A1 PE4, A2 PE2, A4 PI6, A5 PB6, A6 PI2, A8 PG10, A9 PD5, A11 PC12, A12 PC10, A13 PI0, B2 PE3, B5 PB8, B7 PI3, B8 PG11, B9 PD6, B11 PC11, B13 PI1, C2 PE6, C3 PE5, C5 PB9, C6 PB5, C7 PG14, C8 PG9, C9 PD4, C10 PD1, D3 PC13, D4 PE1, D5 PE0, D6 PB7, D7 PG13, D8 PD7, D9 PD3, D10 PD0, E1 PI11, E2 PI7, E4 PF1, E5 PF3, E7 PG15, E8 PG12, E9 PD2, E10 PA10, E11 PA9, E12 PA8, E13 PA12, F1 PI13, F2 PI12, F3 PF0, F4 PF2, F5 PF5, F6 PF7, F8 PG4, F9 PC6, F10 PC7, F11 PC9, F12 PC8, F13 PA11, G3 PF4, G4 PF6, G5 PF9, G7 PF13, G8 PE7, G9 PG6, G10 PG7, G11 PG8
part B pins: H3 PF10, H4 PF8, H5 PJ1, H6 PA4, H7 PF14, H8 PE8, H9 PG2, H10 PG3, H11 PG5, J1 PC0, J2 PC1, J4 PJ0, J5 PA0, J6 PA7, J7 PF15, J8 PE9, J9 PE14, J10 PD11, J11 PD13, J12 PD15, J13 PD14, K1 PC3_C, K2 PC2_C, K3 PH4, K4 PA1, K5 PA6, K6 PC4, K7 PG0, K8 PE13, K9 PH10, K10 PH12, K11 PD9, K12 PD10, K13 PD12, L3 PH5, L4 PA5, L5 PB1, L6 PB2, L7 PG1, L8 PE12, L9 PB10, L10 PH11, L11 PB13, M3 PH3, M5 PB0, M6 PF11, M8 PE10, M9 PB11, M12 PD8, M13 PB15, N1 PA2, N2 PH2, N3 PA3, N5 PC5, N6 PF12, N8 PE11, N9 PE15, N12 PB12, N13 PB14
part C pins: A3 VDD, A7 VDD, A10 VDD, B1 PC15-OSC32_OUT, B3 VSS, B4 VDDLDO, B6 PB4/JTCK/SWCLK, B10 VSS, B12 PA14/NJTRST, C1 PC14-OSC32_IN, C4 PDR_ON, C11 PA15/JTDI, C12 VSS, C13 VDD, D1 VDD, D2 VSS, D11 PA13/JTMS/SWDIO, D12 VDDLDO, D13 VCAP, E3 VBAT, E6 BOOT0, F7 PB3/JTDO/TRACESWO, G1 VDD, G2 VSS, G6 NRST, G12 VDD50USB, G13 VDD33USB, H1 PH0-OSC_IN, H2 PH1-OSC_OUT, H12 VSS, H13 VDD, J3 VSSA, L1 VDDA, L2 VREF+, L12 VSS, L13 VDD, M1 VDD, M2 VSS, M4 VSS, M7 VSS, M10 VDDLDO, M11 VSS, N4 VDD, N7 VDD, N10 VCAP, N11 VDD

## STM32H743IIT6
designator U?
ARM Microcontrollers - MCU High-performance & DSP DP-FPU, Arm Cortex-M7 MCU 2MBytes of Flash 1MB RAM, 480 M; Manufacturer: STMicroelectronics; Flash Size: 2 MB; Pad count: 176; Supply Voltage - Max: 3.6 V; Supply Voltage - Min: 1.62 V; ComponentLink1Description: Datasheet; ComponentLink1URL: https://www.lcsc.com/datasheet/C89597.pdf; LCSC Part #: C89597; Manufacturer Part Number: STM32H743IIT6; Mount: SMD/SMT; Operating Temperature Max: + 85 C; Operating Temperature Min: - 40 C; Package / Case: LQFP-176; Packaging: Tape and Reel; Part Number: STM32H743IIT6; Ram Size: 1 MB; Supplier 1: Mouser; Supplier 1 Part Number: 511-STM32H743IIT6; Supplier 1 URL: https://www.mouser.com/ProductDetail/STMicroelectronics/STM32H743IIT6?qs=FNcb6ahWXRzE163cq8Rfjg%3D%3D; Supplier 2: Digi-Key; Supplier 2 Part Number: 497-17722-ND; Supplier 2 URL: https://www.digikey.com/en/products/detail/stmicroelectronics/STM32H743IIT6/7915904?s=N4IgTCBcDaIMoBUCyBmMAJA7AFhQSTwQDYQBdAXyA; Supplier 3: thegioiic; Supplier 3 Part Number: N/A; Supplier 3 URL: N/A; Value: STM32H743IIT6
footprint STM32H743IIT6 (LQFP is a 176-pin, 24 x 24 mm, 0.5 mm pitch, low profile quad flat package.)
ibis stm32h742_743_750_753_lqfp144 (Model Description)
part A pins: 6 VBAT (power), 9 PC14-OSC32_IN, 10 PC15-OSC32_OUT, 14 VSS_1 (power), 15 VDD_1 (power), 22 VSS_2 (power), 23 VDD_2 (power), 29 PH0-OSC_IN, 30 PH1-OSC_OUT, 31 NRST, 36 VDD_3 (power), 37 VSSA (power), 38 VREF+, 39 VDDA (power), 40 PA0-WKUP, 48 VSS_3 (power), 49 VDD_4 (power), 61 VSS_4 (power), 62 VDD_5 (power), 71 VSS_5 (power), 72 VDD_6 (power), 81 VCAP1 (power), 82 VDD_7 (power), 90 VSS_6 (power), 91 VDD_8 (power), 102 VSS_7 (power), 103 VDD_9 (power), 113 VSS_8 (power), 114 VDD33_USB (power), 124 PA13_DEBUG_JTMS_SWDIO, 125 VCAP2 (power), 126 VSS_9 (power), 127 VDD_10 (power), 135 VSS_10 (power), 136 VDD_11 (power), 137 PA14_DEBUG_JTCK_SWCLK, 138 PA15_DEBUG_JTDI, 148 VSS_11 (power), 149 VDD_12 (power), 158 VSS_12 (power), 159 VDD_13 (power), 161 PB3_DEBUG_JTDO_SWO, 162 PB4_DEBUG_JTRST, 166 BOOT0, 171 PDR_ON, 172 VDD_14 (power)
part B pins: 1 PE2, 2 PE3, 3 PE4, 4 PE5, 5 PE6, 7 PI8, 8 PC13, 11 PI9, 12 PI10, 13 PI11, 16 PF0, 17 PF1, 18 PF2, 19 PF3, 20 PF4, 21 PF5, 24 PF6, 25 PF7, 26 PF8, 27 PF9, 28 PF10, 32 PC0, 33 PC1, 34 PC2_C, 35 PC3_C, 41 PA1, 42 PA2, 43 PH2, 44 PH3, 45 PH4, 46 PH5, 47 PA3, 50 PA4, 51 PA5, 52 PA6, 53 PA7, 54 PC4, 55 PC5, 56 PB0, 57 PB1, 58 PB2, 59 PF11, 60 PF12, 63 PF13, 64 PF14, 65 PF15, 66 PG0, 67 PG1, 68 PE7, 69 PE8, 70 PE9, 73 PE10, 74 PE11, 75 PE12, 76 PE13, 77 PE14, 78 PE15, 79 PB10, 80 PB11, 83 PH6, 84 PH7, 85 PH8, 86 PH9, 87 PH10, 88 PH11
part C pins: 89 PH12, 92 PB12, 93 PB13, 94 PB14, 95 PB15, 96 PD8, 97 PD9, 98 PD10, 99 PD11, 100 PD12, 101 PD13, 104 PD14, 105 PD15, 106 PG2, 107 PG3, 108 PG4, 109 PG5, 110 PG6, 111 PG7, 112 PG8, 115 PC6, 116 PC7, 117 PC8, 118 PC9, 119 PA8, 120 PA9, 121 PA10, 122 PA11, 123 PA12, 128 PH13, 129 PH14, 130 PH15, 131 PI0, 132 PI1, 133 PI2, 134 PI3, 139 PC10, 140 PC11, 141 PC12, 142 PD0, 143 PD1, 144 PD2, 145 PD3, 146 PD4, 147 PD5, 150 PD6, 151 PD7, 152 PG9, 153 PG10, 154 PG11, 155 PG12, 156 PG13, 157 PG14, 160 PG15, 163 PB5, 164 PB6, 165 PB7, 167 PB8, 168 PB9, 169 PE0, 170 PE1, 173 PI4, 174 PI5, 175 PI6, 176 PI7

## STM32H747IGT6
designator U?
ARM Microcontrollers - MCU High-performance & DSP DP-FPU, Arm Cortex-M7 + Cortex-M4 MCU 1MBytes of Flash 1M; Manufacturer: STMicroelectronics; Pad count: 176; Supply Voltage - Max: 3.6 V; Supply Voltage - Min: 1.62 V; Part Number: STM32H747IGT6; Value: STM32H747IGT6; Supplier 1 URL: https://www.mouser.com/ProductDetail/STMicroelectronics/STM32H747IGT6?qs=%252B6g0mu59x7Kw%252BsPEalqvLg%3D%3D; Supplier 2 URL: https://www.digikey.com/en/products/detail/stmicroelectronics/stm32h747igt6/12337762; Supplier 3 URL: N/A; Manufacturer Part Number: STM32H747IGT6; Packaging: Tape and Reel; Supplier 1: Mouser; Supplier 1 Part Number: 511-STM32H747IGT6; Supplier 2: Digi-Key; Supplier 2 Part Number: 497-STM32H747IGT6-ND; Supplier 3: thegioiic; Supplier 3 Part Number: N/A; Mount: SMD/SMT; Operating Temperature Max: + 85 C; Operating Temperature Min: - 40 C; Package / Case: LQFP-176; ComponentLink1Description: Datasheet; ComponentLink1URL: https://www.lcsc.com/datasheet/C730198.pdf; LCSC Part #: C730198
footprint STM32H747IGT6 (LQFP is a 176-pin, 24 x 24 mm, 0.5 mm pitch, low profile quad flat package.)
part A pins: 1 PE2, 2 PE3, 3 PE4, 4 PE5, 5 PE6, 9 PC13, 18 PF0, 19 PF1, 20 PF2, 21 PF3, 22 PF4, 23 PF5, 26 PF6, 27 PF7, 28 PF8, 29 PF9, 30 PF10, 34 PC0, 35 PC1, 36 PC2_C, 37 PC3_C, 41 PA0, 42 PA1, 43 PA2, 46 PA3, 49 PA4, 50 PA5, 51 PA6, 52 PA7, 53 PC4, 54 PC5, 55 PB0, 56 PB1, 57 PB2, 58 PF11, 59 PF12, 60 PF13, 61 PF14, 62 PF15, 63 PG0, 66 PG1, 67 PE7, 68 PE8, 69 PE9, 72 PE10, 73 PE11, 74 PE12, 75 PE13, 76 PE14, 77 PE15, 78 PB10, 79 PB11, 85 PB12, 86 PB13, 87 PB14, 88 PB15
part B pins: 89 PD8, 90 PD9, 91 PD10, 94 PD11, 95 PD12, 96 PD13, 97 PD14, 98 PD15, 110 PG2, 111 PG3, 114 PG4, 115 PG5, 116 PG6, 117 PG7, 118 PG8, 119 VSS, 122 PC6, 123 PC7, 124 PC8, 125 PC9, 127 PA8, 128 PA9, 129 PA10, 130 PA11, 131 PA12, 140 PC10, 141 PC11, 142 PC12, 143 PD0, 144 PD1, 145 PD2, 146 PD3, 147 PD4, 148 PD5, 149 PD6, 150 PD7, 153 PG9, 154 PG10, 155 PG11, 156 PG12, 157 PG13, 158 PG14, 161 PG15, 164 PB5, 165 PB6, 166 PB7, 168 PB8, 169 PB9, 170 PE0, 171 PE1
part C pins: 6 VSS, 7 VDD, 8 VBAT, 12 VSS, 13 VDD, 14 VSSSMPS, 15 VLXSMPS, 16 VDDSMPS, 17 VFBSMPS, 24 VSS, 25 VDD, 38 VSSA, 39 VREF+, 40 VDDA, 44 VDD, 45 VSS, 47 VSS, 48 VDD, 64 VSS, 65 VDD, 70 VSS, 71 VDD, 80 VCAP, 81 VSS, 82 VDDLDO, 83 VSS, 84 VDD, 92 VDD, 93 VSS, 99 VDD, 100 VSS, 101 VCAPDSI, 102 VDD12DSI, 103 DSI_D0P, 104 DSI_D0N, 105 VDDDSI, 106 DSI_CKP, 107 DSI_CKN, 108 VDD12DSI, 109 VSSDSI, 112 VSS, 113 VDD, 120 VDD50USB, 121 VDD33USB, 126 VDD, 133 VCAP, 134 VSS, 135 VDDLDO, 136 VDD, 137 VSS, 151 VSS, 152 VDD, 159 VSS, 160 VDD, 172 VCAP, 173 VSS, 175 VDDLDO, 176 VDD
part D pins: 10 OCS32_IN, 11 OSC32_OUT, 31 OSC_IN, 32 OSC_OUT, 33 NRST, 132 PA13/SWDIO/JTMS, 138 PA14/SWCLK/JTCK, 139 PA15/JTDI, 162 PB3/TRACESWO/JTDO, 163 PB4/JTRST, 167 BOOT0, 174 PDR_ON

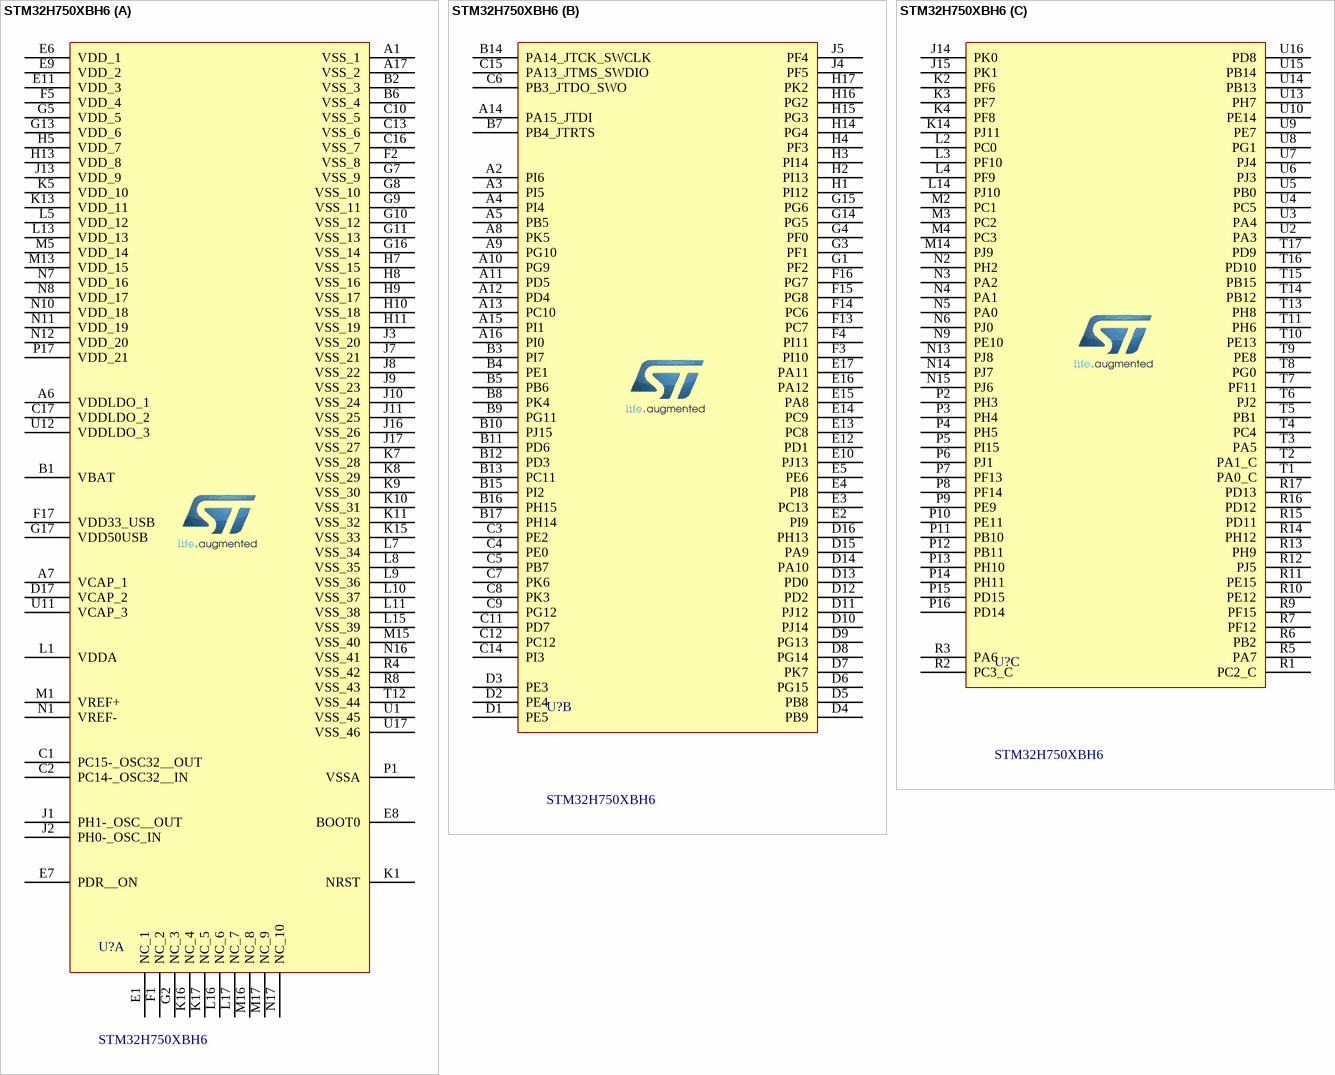
[diagram p4: symbol STM32H750XBH6]

## STM32H750XBH6
designator U?
ARM Cortex-M7 32 Bit 480MHz 168 TFBGA-265 Microcontrollers RoHS; Manufacturer: STMicroelectronics; Flash Size: 128 kB; Pad count: 240; Ram Size: 1 MB; Supply Voltage - Max: 3.6 V; Supply Voltage - Min: 1.62 V; ComponentLink1Description: Datasheet; ComponentLink1URL: https://www.lcsc.com/datasheet/C405932.pdf; LCSC Part #: C405932; Manufacturer Part Number: STM32H750XBH6; Mount: SMD/SMT; Operating Temperature Max: + 85 C; Operating Temperature Min: - 40 C; Package / Case: TFBGA-240; Packaging: Tape and Reel; Part Number: STM32H750XBH6; Supplier 1: Mouser; Supplier 1 Part Number: 511-STM32H750XBH6; Supplier 1 URL: https://www.mouser.com/ProductDetail/STMicroelectronics/STM32H750XBH6?qs=%252BEew9%252B0nqrB%2FAH4I96zlUA%3D%3D; Supplier 2: Digi-Key; Supplier 2 Part Number: 497-18111-ND; Supplier 2 URL: https://www.digikey.com/en/products/detail/stmicroelectronics/STM32H750XBH6/9453372; Supplier 3: thegioiic; Supplier 3 Part Number: N/A; Supplier 3 URL: N/A; Value: STM32H750XBH6
footprint STM32H750XBH6 (BGA, 240-Leads, Body 14.00x14.00mmx1.10mm, Pitch 0.80mm)
part A pins: A1 VSS_1, A6 VDDLDO_1, A7 VCAP_1, A17 VSS_2, B1 VBAT, B2 VSS_3, B6 VSS_4, C1 PC15-_OSC32__OUT, C2 PC14-_OSC32__IN, C10 VSS_5, C13 VSS_6, C16 VSS_7, C17 VDDLDO_2, D17 VCAP_2, E1 NC_1, E6 VDD_1, E7 PDR__ON, E8 BOOT0, E9 VDD_2, E11 VDD_3, F1 NC_2, F2 VSS_8, F5 VDD_4, F17 VDD33_USB, G2 NC_3, G5 VDD_5, G7 VSS_9, G8 VSS_10, G9 VSS_11, G10 VSS_12, G11 VSS_13, G13 VDD_6, G16 VSS_14, G17 VDD50USB, H5 VDD_7, H7 VSS_15, H8 VSS_16, H9 VSS_17, H10 VSS_18, H11 VSS_19, H13 VDD_8, J1 PH1-_OSC__OUT, J2 PH0-_OSC_IN, J3 VSS_20, J7 VSS_21, J8 VSS_22, J9 VSS_23, J10 VSS_24, J11 VSS_25, J13 VDD_9, J16 VSS_26, J17 VSS_27, K1 NRST, K5 VDD_10, K7 VSS_28, K8 VSS_29, K9 VSS_30, K10 VSS_31, K11 VSS_32, K13 VDD_11, K15 VSS_33, K16 NC_4, K17 NC_5, L1 VDDA, L5 VDD_12, L7 VSS_34, L8 VSS_35, L9 VSS_36, L10 VSS_37, L11 VSS_38, L13 VDD_13, L15 VSS_39, L16 NC_6, L17 NC_7, M1 VREF+, M5 VDD_14, M13 VDD_15, M15 VSS_40, M16 NC_8, M17 NC_9, N1 VREF-, N7 VDD_16, N8 VDD_17, N10 VDD_18, N11 VDD_19, N12 VDD_20, N16 VSS_41, N17 NC_10, P1 VSSA, P17 VDD_21, R4 VSS_42, R8 VSS_43, T12 VSS_44, U1 VSS_45, U11 VCAP_3, U12 VDDLDO_3, U17 VSS_46
part B pins: A2 PI6, A3 PI5, A4 PI4, A5 PB5, A8 PK5, A9 PG10, A10 PG9, A11 PD5, A12 PD4, A13 PC10, A14 PA15_JTDI, A15 PI1, A16 PI0, B3 PI7, B4 PE1, B5 PB6, B7 PB4_JTRTS, B8 PK4, B9 PG11, B10 PJ15, B11 PD6, B12 PD3, B13 PC11, B14 PA14_JTCK_SWCLK, B15 PI2, B16 PH15, B17 PH14, C3 PE2, C4 PE0, C5 PB7, C6 PB3_JTDO_SWO, C7 PK6, C8 PK3, C9 PG12, C11 PD7, C12 PC12, C14 PI3, C15 PA13_JTMS_SWDIO, D1 PE5, D2 PE4, D3 PE3, D4 PB9, D5 PB8, D6 PG15, D7 PK7, D8 PG14, D9 PG13, D10 PJ14, D11 PJ12, D12 PD2, D13 PD0, D14 PA10, D15 PA9, D16 PH13, E2 PI9, E3 PC13, E4 PI8, E5 PE6, E10 PJ13, E12 PD1, E13 PC8, E14 PC9, E15 PA8, E16 PA12, E17 PA11, F3 PI10, F4 PI11, F13 PC7, F14 PC6, F15 PG8, F16 PG7, G1 PF2, G3 PF1, G4 PF0, G14 PG5, G15 PG6, H1 PI12, H2 PI13, H3 PI14, H4 PF3, H14 PG4, H15 PG3, H16 PG2, H17 PK2, J4 PF5, J5 PF4
part C pins: J14 PK0, J15 PK1, K2 PF6, K3 PF7, K4 PF8, K14 PJ11, L2 PC0, L3 PF10, L4 PF9, L14 PJ10, M2 PC1, M3 PC2, M4 PC3, M14 PJ9, N2 PH2, N3 PA2, N4 PA1, N5 PA0, N6 PJ0, N9 PE10, N13 PJ8, N14 PJ7, N15 PJ6, P2 PH3, P3 PH4, P4 PH5, P5 PI15, P6 PJ1, P7 PF13, P8 PF14, P9 PE9, P10 PE11, P11 PB10, P12 PB11, P13 PH10, P14 PH11, P15 PD15, P16 PD14, R1 PC2_C, R2 PC3_C, R3 PA6, R5 PA7, R6 PB2, R7 PF12, R9 PF15, R10 PE12, R11 PE15, R12 PJ5, R13 PH9, R14 PH12, R15 PD11, R16 PD12, R17 PD13, T1 PA0_C, T2 PA1_C, T3 PA5, T4 PC4, T5 PB1, T6 PJ2, T7 PF11, T8 PG0, T9 PE8, T10 PE13, T11 PH6, T13 PH8, T14 PB12, T15 PB15, T16 PD10, T17 PD9, U2 PA3, U3 PA4, U4 PC5, U5 PB0, U6 PJ3, U7 PJ4, U8 PG1, U9 PE7, U10 PE14, U13 PH7, U14 PB13, U15 PB14, U16 PD8